# EAGLE library part SN74LVC14A (library dflocal)
Hex schmitt trigger INVERTER
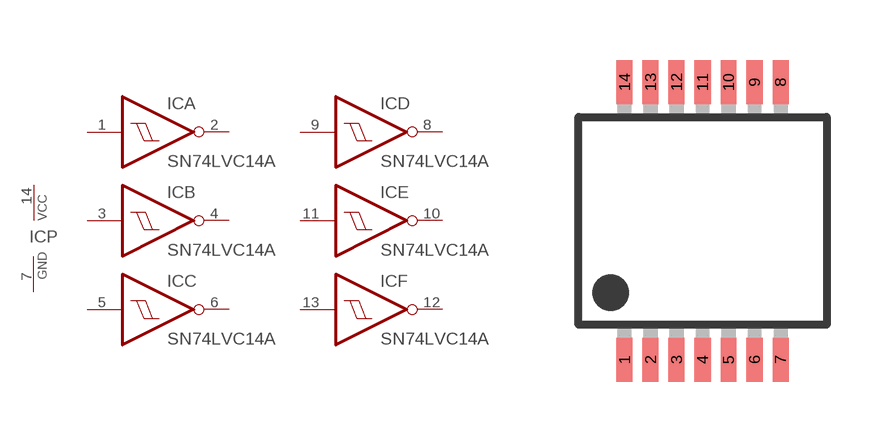
[diagram p3: symbol with the pads of SSOP14; footprint SSOP14]

Designator prefix IC; gates A=7414 B=7414 C=7414 D=7414 E=7414 F=7414 P=PWRN

## SN74LVC14ADB  [SSOP14]
1  A:I  in
2  A:O  out
3  B:I  in
4  B:O  out
5  C:I  in
6  C:O  out
7  P:GND  pwr
8  D:O  out
9  D:I  in
10  E:O  out
11  E:I  in
12  F:O  out
13  F:I  in
14  P:VCC  pwr

## Footprint SSOP14 (pad centres in mm)
plastic shrink small outline package; 14 leads; body width 5.3 mm SOT337-1 Source: http://www.nxp.com/documents/data_sheet/74ABT125.pdf
smd 0.4 x 1.1: 1 -1.95,-3.475; 2 -1.3,-3.475; 3 -0.65,-3.475; 4 0,-3.475; 5 0.65,-3.475; 6 1.3,-3.475; 7 1.95,-3.475; 8 1.95,3.475; 9 1.3,3.475; 10 0.65,3.475; 11 0,3.475; 12 -0.65,3.475; 13 -1.3,3.475; 14 -1.95,3.475